# Altium schematic symbol library kmilo17pet-AD_Isolators.SchLib: 645 symbols (part 36 of 36)
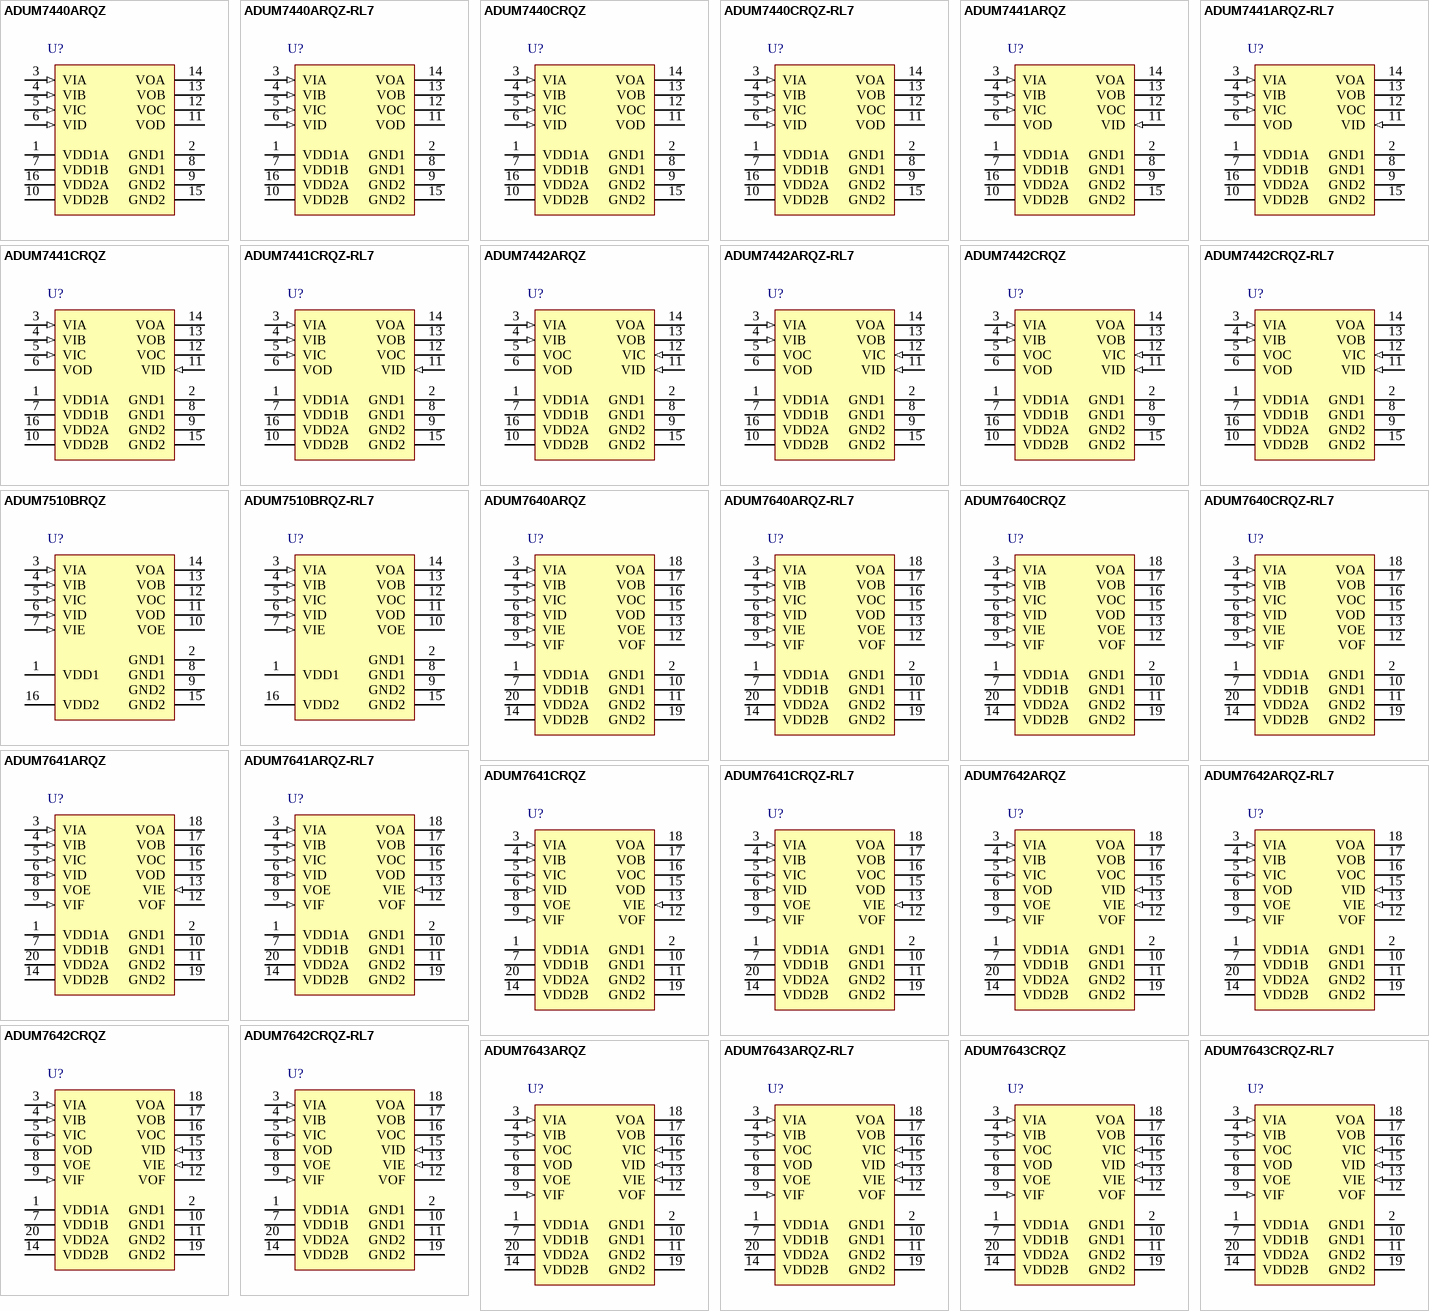
[diagram p55: symbols ADUM7440ARQZ to ADUM7643CRQZ-RL7]

## ADUM7643ARQZ-RL7
designator U?
6 Channel Digital Isolator, 1 KV rms Insulation Rating, 1 Mbps Data Rate, 20 ns Delay, Industrial, 20-pin SOP (RQ-20), Reel; Manufacturer: Analog Devices; PartNumber: ADUM7643ARQZ-RL7; Insulation Rating (kVrms): 2.5; Max Data Rate: 1Mbps; DatasheetVersion: Rev. 0; PackageVersion: Aug-05; PackageReference: RQ-20; PackageDescription: 20-Pin Shrink Small Outline Package, Body 8.66 x 3.9 mm, Pitch 0.635 mm; Supplier 1: Digi-Key; Supplier Part Number 1: ADUM7643ARQZ-RL7-ND; Max Operating Temp (degreesC): 105; Mounting Technology: Surface Mount; Code_JEDEC: MO-137-AD; ComponentLink1Description: Manufacturer URL; ComponentLink1URL: http://www.analog.com/en/index.html; ComponentLink2Description: Datasheet; ComponentLink2URL: http://www.analog.com/static/imported-files/data_sheets/ADuM7640_7641_7642_7643.pdf; ComponentLink3Description: Package Specification; ComponentLink3URL: http:/www.analog.com/static/imported-files/packages/184195322RQ_20.pdf; ComponentLink4Description: URL Link1; ComponentLink4URL: Product URL:http://www.analog.com/en/interface-isolation/digital-isolators/adum7643/products/product.html
footprint ADI-RQ-20_N (SOP, 20-Leads, Body 8.66x3.9mm, Pitch 0.635mm, IPC Medium Density)
footprint ADI-RQ-20_L (SOP, 20-Leads, Body 8.66x3.9mm, Pitch 0.635mm, IPC High Density)
footprint ADI-RQ-20_M (SOP, 20-Leads, Body 8.66x3.9mm, Pitch 0.635mm, IPC Low Density)
pins: 1 VDD1A (power) "Supply Voltage A for Isolator Side 1 (3.0 V to 5.5 V). Pin 1 must be connected externally to Pin 7. Connect a 0.01 uF to 0.1 uF between VDD1A (Pin 1) and GND1 (Pin 2).", 2 GND1 (power) "Ground Reference for Isolator Side 1. Pin 2 and Pin 10 are internally connected, and connecting both pins to the PCB ground plane is recommended.", 3 VIA (in) "Logic Input A.", 4 VIB (in) "Logic Input B.", 5 VOC (hiz) "Logic Input C.", 6 VOD (hiz) "Logic Output D.", 7 VDD1B (power) "Supply Voltage B for Isolator Side 1 (3.0 V to 5.5 V). Pin 7 must be connected externally to Pin 1. Connect a 0.01 uF to 0.1 uF between VDD1B (Pin 7) and GND1 (Pin 10).", 8 VOE (hiz) "Logic Output E.", 9 VIF (in) "Logic Input F.", 10 GND1 (power) "Ground Reference for Isolator Side 1. Pin 2 and Pin 10 are internally connected, and connecting both pins to the PCB ground plane is recommended.", 11 GND2 (power) "Ground Reference for Isolator Side 2. Pin 11 and Pin 19 are internally connected, and connecting both pins to the PCB ground plane is recommended.", 12 VOF (hiz) "Logic Output F.", 13 VIE (in) "Logic Input E.", 14 VDD2B (power) "Supply Voltage B for Isolator Side 2 (3.0 V to 5.5 V). Pin 14 must be connected externally to Pin 20. Connect a 0.01 uF to 0.1 uF between VDD2B (Pin 14) and GND2 (Pin 11).", 15 VID (in) "Logic Input D.", 16 VIC (in) "Logic Output C.", 17 VOB (hiz) "Logic Output B.", 18 VOA (hiz) "Logic Output A.", 19 GND2 (power) "Ground Reference for Isolator Side 2. Pin 11 and Pin 19 are internally connected, and connecting both pins to the PCB ground plane is recommended.", 20 VDD2A (power) "Supply Voltage A for Isolator Side 2 (3.0 V to 5.5 V). Pin 20 must be connected externally to Pin 14. Connect a 0.01 uF to 0.1 uF between VDD2A (Pin 20) and GND2 (Pin 19)."

## ADUM7643CRQZ
designator U?
6 Channel Digital Isolator, 1 KV rms Insulation Rating, 25 Mbps Data Rate, 14 ns Delay, Industrial, 20-pin SOP (RQ-20), Tube; Manufacturer: Analog Devices; PartNumber: ADUM7643CRQZ; Insulation Rating (kVrms): 2.5; Max Data Rate: 25Mbps; DatasheetVersion: Rev. 0; PackageVersion: Aug-05; PackageReference: RQ-20; PackageDescription: 20-Pin Shrink Small Outline Package, Body 8.66 x 3.9 mm, Pitch 0.635 mm; Supplier 1: Digi-Key; Supplier Part Number 1: ADUM7643CRQZ-ND; Max Operating Temp (degreesC): 105; Mounting Technology: Surface Mount; Code_JEDEC: MO-137-AD; ComponentLink1Description: Manufacturer URL; ComponentLink1URL: http://www.analog.com/en/index.html; ComponentLink2Description: Datasheet; ComponentLink2URL: http://www.analog.com/static/imported-files/data_sheets/ADuM7640_7641_7642_7643.pdf; ComponentLink3Description: Package Specification; ComponentLink3URL: http:/www.analog.com/static/imported-files/packages/184195322RQ_20.pdf; ComponentLink4Description: URL Link1; ComponentLink4URL: Product URL:http://www.analog.com/en/interface-isolation/digital-isolators/adum7643/products/product.html
footprint ADI-RQ-20_N (SOP, 20-Leads, Body 8.66x3.9mm, Pitch 0.635mm, IPC Medium Density)
footprint ADI-RQ-20_L (SOP, 20-Leads, Body 8.66x3.9mm, Pitch 0.635mm, IPC High Density)
footprint ADI-RQ-20_M (SOP, 20-Leads, Body 8.66x3.9mm, Pitch 0.635mm, IPC Low Density)
pins: 1 VDD1A (power) "Supply Voltage A for Isolator Side 1 (3.0 V to 5.5 V). Pin 1 must be connected externally to Pin 7. Connect a 0.01 uF to 0.1 uF between VDD1A (Pin 1) and GND1 (Pin 2).", 2 GND1 (power) "Ground Reference for Isolator Side 1. Pin 2 and Pin 10 are internally connected, and connecting both pins to the PCB ground plane is recommended.", 3 VIA (in) "Logic Input A.", 4 VIB (in) "Logic Input B.", 5 VOC (hiz) "Logic Input C.", 6 VOD (hiz) "Logic Output D.", 7 VDD1B (power) "Supply Voltage B for Isolator Side 1 (3.0 V to 5.5 V). Pin 7 must be connected externally to Pin 1. Connect a 0.01 uF to 0.1 uF between VDD1B (Pin 7) and GND1 (Pin 10).", 8 VOE (hiz) "Logic Output E.", 9 VIF (in) "Logic Input F.", 10 GND1 (power) "Ground Reference for Isolator Side 1. Pin 2 and Pin 10 are internally connected, and connecting both pins to the PCB ground plane is recommended.", 11 GND2 (power) "Ground Reference for Isolator Side 2. Pin 11 and Pin 19 are internally connected, and connecting both pins to the PCB ground plane is recommended.", 12 VOF (hiz) "Logic Output F.", 13 VIE (in) "Logic Input E.", 14 VDD2B (power) "Supply Voltage B for Isolator Side 2 (3.0 V to 5.5 V). Pin 14 must be connected externally to Pin 20. Connect a 0.01 uF to 0.1 uF between VDD2B (Pin 14) and GND2 (Pin 11).", 15 VID (in) "Logic Input D.", 16 VIC (in) "Logic Output C.", 17 VOB (hiz) "Logic Output B.", 18 VOA (hiz) "Logic Output A.", 19 GND2 (power) "Ground Reference for Isolator Side 2. Pin 11 and Pin 19 are internally connected, and connecting both pins to the PCB ground plane is recommended.", 20 VDD2A (power) "Supply Voltage A for Isolator Side 2 (3.0 V to 5.5 V). Pin 20 must be connected externally to Pin 14. Connect a 0.01 uF to 0.1 uF between VDD2A (Pin 20) and GND2 (Pin 19)."

## ADUM7643CRQZ-RL7
designator U?
6 Channel Digital Isolator, 1 KV rms Insulation Rating, 25 Mbps Data Rate, 14 ns Delay, Industrial, 20-pin SOP (RQ-20), Reel; Manufacturer: Analog Devices; PartNumber: ADUM7643CRQZ-RL7; Insulation Rating (kVrms): 2.5; Max Data Rate: 25Mbps; DatasheetVersion: Rev. 0; PackageVersion: Aug-05; PackageReference: RQ-20; PackageDescription: 20-Pin Shrink Small Outline Package, Body 8.66 x 3.9 mm, Pitch 0.635 mm; Supplier 1: Digi-Key; Supplier Part Number 1: ADUM7643CRQZ-RL7-ND; Max Operating Temp (degreesC): 105; Mounting Technology: Surface Mount; Code_JEDEC: MO-137-AD; ComponentLink1Description: Manufacturer URL; ComponentLink1URL: http://www.analog.com/en/index.html; ComponentLink2Description: Datasheet; ComponentLink2URL: http://www.analog.com/static/imported-files/data_sheets/ADuM7640_7641_7642_7643.pdf; ComponentLink3Description: Package Specification; ComponentLink3URL: http:/www.analog.com/static/imported-files/packages/184195322RQ_20.pdf; ComponentLink4Description: URL Link1; ComponentLink4URL: Product URL:http://www.analog.com/en/interface-isolation/digital-isolators/adum7643/products/product.html
footprint ADI-RQ-20_N (SOP, 20-Leads, Body 8.66x3.9mm, Pitch 0.635mm, IPC Medium Density)
footprint ADI-RQ-20_L (SOP, 20-Leads, Body 8.66x3.9mm, Pitch 0.635mm, IPC High Density)
footprint ADI-RQ-20_M (SOP, 20-Leads, Body 8.66x3.9mm, Pitch 0.635mm, IPC Low Density)
pins: 1 VDD1A (power) "Supply Voltage A for Isolator Side 1 (3.0 V to 5.5 V). Pin 1 must be connected externally to Pin 7. Connect a 0.01 uF to 0.1 uF between VDD1A (Pin 1) and GND1 (Pin 2).", 2 GND1 (power) "Ground Reference for Isolator Side 1. Pin 2 and Pin 10 are internally connected, and connecting both pins to the PCB ground plane is recommended.", 3 VIA (in) "Logic Input A.", 4 VIB (in) "Logic Input B.", 5 VOC (hiz) "Logic Input C.", 6 VOD (hiz) "Logic Output D.", 7 VDD1B (power) "Supply Voltage B for Isolator Side 1 (3.0 V to 5.5 V). Pin 7 must be connected externally to Pin 1. Connect a 0.01 uF to 0.1 uF between VDD1B (Pin 7) and GND1 (Pin 10).", 8 VOE (hiz) "Logic Output E.", 9 VIF (in) "Logic Input F.", 10 GND1 (power) "Ground Reference for Isolator Side 1. Pin 2 and Pin 10 are internally connected, and connecting both pins to the PCB ground plane is recommended.", 11 GND2 (power) "Ground Reference for Isolator Side 2. Pin 11 and Pin 19 are internally connected, and connecting both pins to the PCB ground plane is recommended.", 12 VOF (hiz) "Logic Output F.", 13 VIE (in) "Logic Input E.", 14 VDD2B (power) "Supply Voltage B for Isolator Side 2 (3.0 V to 5.5 V). Pin 14 must be connected externally to Pin 20. Connect a 0.01 uF to 0.1 uF between VDD2B (Pin 14) and GND2 (Pin 11).", 15 VID (in) "Logic Input D.", 16 VIC (in) "Logic Output C.", 17 VOB (hiz) "Logic Output B.", 18 VOA (hiz) "Logic Output A.", 19 GND2 (power) "Ground Reference for Isolator Side 2. Pin 11 and Pin 19 are internally connected, and connecting both pins to the PCB ground plane is recommended.", 20 VDD2A (power) "Supply Voltage A for Isolator Side 2 (3.0 V to 5.5 V). Pin 20 must be connected externally to Pin 14. Connect a 0.01 uF to 0.1 uF between VDD2A (Pin 20) and GND2 (Pin 19)."